# EAGLE library part OPA637AU (library EW_IC_Op_Amps)
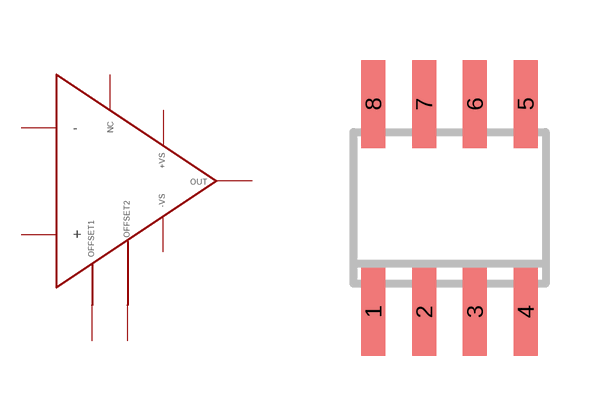
[diagram p5: symbol with the pads of SO08; footprint SO08]

Designator prefix U

## OPA637AU  [SO08]
1  OFFSET1
2  -
3  +
4  -VS
5  OFFSET2
6  OUT
7  +VS
8  NC

## Footprint SO08 (pad centres in mm)
Small Outline Package 8 NS Package M08A
smd 0.6 x 2.2: 1 -1.905,-2.6; 2 -0.635,-2.6; 3 0.635,-2.6; 4 1.905,-2.6; 5 1.905,2.6; 6 0.635,2.6; 7 -0.635,2.6; 8 -1.905,2.6